# EAGLE library part CHG-4056 (library picoKey)
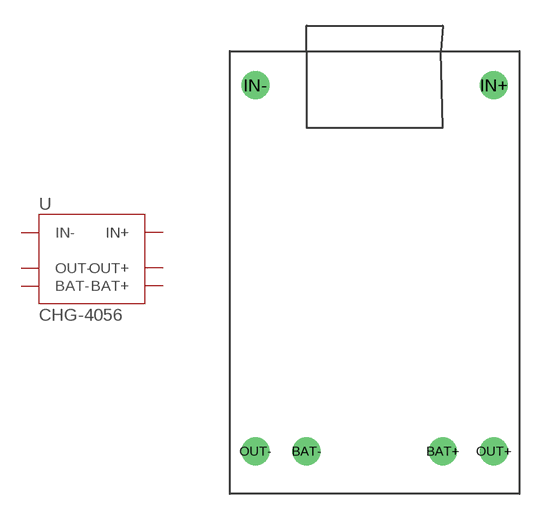
[diagram p5: symbol with the pads of CHG-4056; footprint CHG-4056]

Designator prefix U

## CHG-4056  [CHG-4056]
BAT+  BAT+
BAT-  BAT-
IN+  IN+
IN-  IN-
OUT+  OUT+
OUT-  OUT-

## Footprint CHG-4056 (pad centres in mm)
drill 1.1 pad 1.6: BAT+ 4,-10.5; BAT- -4,-10.5; IN+ 7,11; IN- -7,11; OUT+ 7,-10.5; OUT- -7,-10.5